# EAGLE library part RASPBERRY_PI_5_40PIN (library raspberry_pi_5_40pin_eagle)
Raspberry Pi 5 - conector 40 pinos (header 2x20) - pin names limpos.
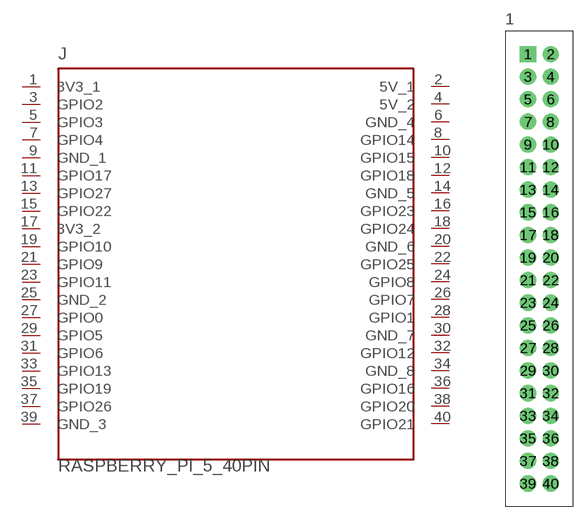
[diagram p0: symbol with the pads of RPI_HDR_2X20_2P54_THT; footprint RPI_HDR_2X20_2P54_THT]

Designator prefix J

## RASPBERRY_PI_5_40PIN  [RPI_HDR_2X20_2P54_THT]
1  3V3_1  pwr
2  5V_1  pwr
3  GPIO2
4  5V_2  pwr
5  GPIO3
6  GND_4  pwr
7  GPIO4
8  GPIO14
9  GND_1  pwr
10  GPIO15
11  GPIO17
12  GPIO18
13  GPIO27
14  GND_5  pwr
15  GPIO22
16  GPIO23
17  3V3_2  pwr
18  GPIO24
19  GPIO10
20  GND_6  pwr
21  GPIO9
22  GPIO25
23  GPIO11
24  GPIO8
25  GND_2  pwr
26  GPIO7
27  GPIO0
28  GPIO1
29  GPIO5
30  GND_7  pwr
31  GPIO6
32  GPIO12
33  GPIO13
34  GND_8  pwr
35  GPIO19
36  GPIO16
37  GPIO26
38  GPIO20
39  GND_3  pwr
40  GPIO21

## Footprint RPI_HDR_2X20_2P54_THT (pad centres in mm)
Header 2x20 2.54mm THT. Pad 1 no canto superior esquerdo.
drill 1 pad 1.8 square: 1 -1.27,48.26
drill 1 pad 1.8: 2 1.27,48.26; 3 -1.27,45.72; 4 1.27,45.72; 5 -1.27,43.18; 6 1.27,43.18; 7 -1.27,40.64; 8 1.27,40.64; 9 -1.27,38.1; 10 1.27,38.1; 11 -1.27,35.56; 12 1.27,35.56; 13 -1.27,33.02; 14 1.27,33.02; 15 -1.27,30.48; 16 1.27,30.48; 17 -1.27,27.94; 18 1.27,27.94; 19 -1.27,25.4; 20 1.27,25.4; 21 -1.27,22.86; 22 1.27,22.86; 23 -1.27,20.32; 24 1.27,20.32; 25 -1.27,17.78; 26 1.27,17.78; 27 -1.27,15.24; 28 1.27,15.24; 29 -1.27,12.7; 30 1.27,12.7; 31 -1.27,10.16; 32 1.27,10.16; 33 -1.27,7.62; 34 1.27,7.62; 35 -1.27,5.08; 36 1.27,5.08; 37 -1.27,2.54; 38 1.27,2.54; 39 -1.27,0; 40 1.27,0